# Altium schematic symbol library ESP32S2MINI.SchLib: 1 symbol
Pins are listed as number, name and electrical type; pins without a type are passive.

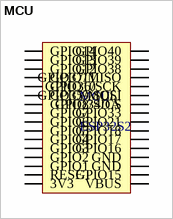
[diagram p0: symbol MCU]

## MCU
designator MCU, comment ESP32S2
footprint ESP32S2MINI
pins: 3V3, GND, GND, GPIO1, GPIO2, GPIO3, GPIO4, GPIO5, GPIO6, GPIO7, GPIO8/SDA, GPIO9/SCL, GPIO10, GPIO11, GPIO12, GPIO13, GPIO14, GPIO15, GPIO16, GPIO17, GPIO18, GPIO21, GPIO33, GPIO34/CS, GPIO35/MOSI, GPIO36/SCK, GPIO37/MISO, GPIO38, GPIO39, GPIO40, RESET, VBUS